# EAGLE library part R415D (library fitre)
R415 Ultraminiature Relay SPDT. 3, 5, 6, 9, 12, 24Vdc coil voltage; 0.5A 125Vac, 1A 60Vdc rated load.
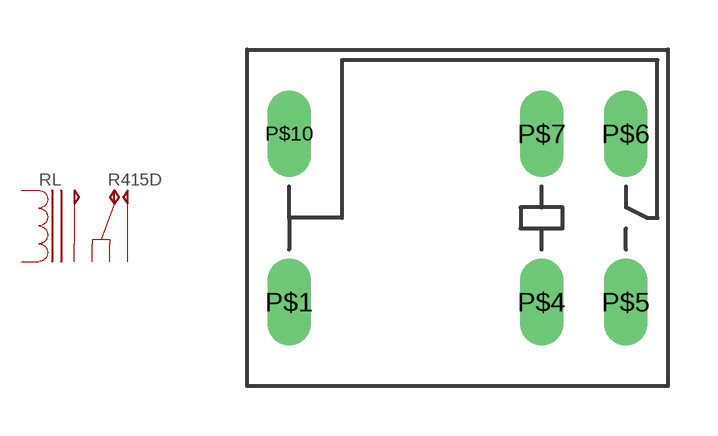
[diagram p0: symbol with the pads of R415D; footprint R415D]

Designator prefix RL

## R415D  [R415D]
P$1  P$1  pas
P$4  P$4  pas
P$5  P$5  pas
P$6  P$6  pas
P$7  P$7  pas
P$10  P$10  pas

## Footprint R415D (pad centres in mm)
drill 0.8 long: P$1 0,0; P$4 7.62,0; P$5 10.16,0; P$6 10.16,5.08; P$7 7.62,5.08; P$10 0,5.08